# Altium schematic symbol library Sch_OtherComponents.SchLib: 1 symbol
Pins are listed as number, name and electrical type; pins without a type are passive.

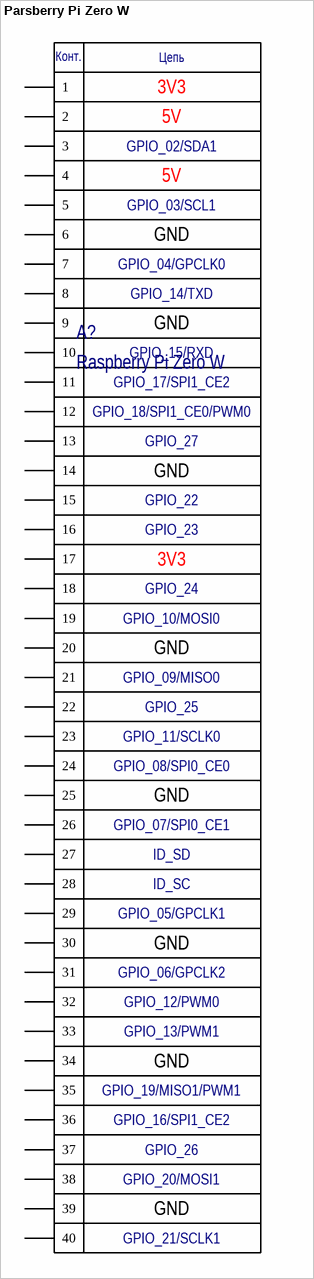
[diagram p0: symbol Parsberry Pi Zero W]

## Parsberry Pi Zero W
designator A?, comment Raspberry Pi Zero W
Paspberry Pi board GPIO; Manufacturer: Raspberry Pi; Part Number: Raspberry Pi Zero W
footprint Raspberry Pi Zero
pins: 1, 2, 3, 4, 5, 6, 7, 8, 9, 10, 11, 12, 13, 14, 15, 16, 17, 18, 19, 20, 21, 22, 23, 24, 25, 26, 27, 28, 29, 30, 31, 32, 33, 34, 35, 36, 37, 38, 39, 40
text: Цепь; Конт.; 3V3; 5V; GPIO_02/SDA1; GPIO_03/SCL1; GND; GPIO_04/GPCLK0; GPIO_14/TXD; GPIO_15/RXD; GPIO_17/SPI1_CE2; GPIO_18/SPI1_CE0/PWM0; GPIO_27; GPIO_22; GPIO_23; GPIO_24; GPIO_10/MOSI0; GPIO_09/MISO0; GPIO_25; GPIO_11/SCLK0; GPIO_08/SPI0_CE0; GPIO_07/SPI0_CE1; ID_SD; ID_SC; GPIO_05/GPCLK1; GPIO_06/GPCLK2; GPIO_12/PWM0; GPIO_13/PWM1; GPIO_19/MISO1/PWM1; GPIO_16/SPI1_CE2; GPIO_26; GPIO_20/MOSI1; GPIO_21/SCLK1